# EAGLE library part TPA3116D2DAD (library TPA3116D2DAD)
￼TPA3116DAD by Daniel Nugent
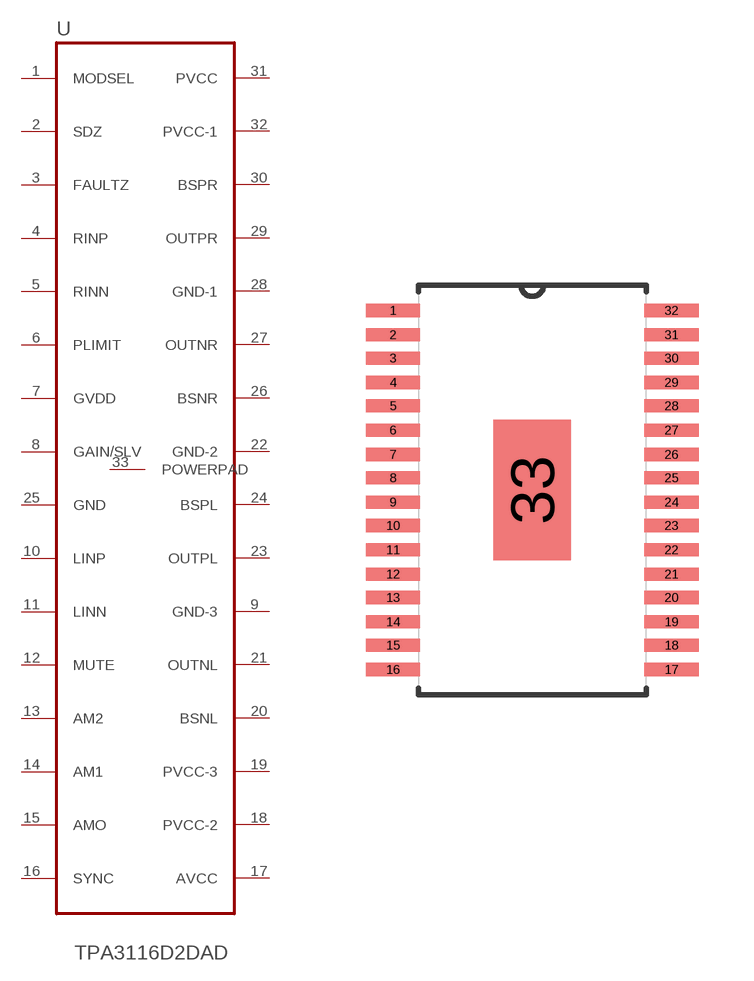
[diagram p0: symbol with the pads of SOP65P810X120-33N; footprint SOP65P810X120-33N]

Designator prefix U

## TPA3116D2DAD (Availability: Unavailable; Description: Amplifier IC 2-Channel _Stereo_ Class D 32-HTSSOP; MF: Texas Instruments; MP: TPA3116D2DAD; Package: HTSSOP-32 Texas Instruments; Price: None)  [SOP65P810X120-33N]
1  MODSEL
2  SDZ
3  FAULTZ
4  RINP  in
5  RINN  in
6  PLIMIT
7  GVDD  pwr
8  GAIN/SLV  in
9  GND-3  pwr
10  LINP  in
11  LINN  in
12  MUTE
13  AM2
14  AM1
15  AMO
16  SYNC
17  AVCC  pwr
18  PVCC-2  pwr
19  PVCC-3  pwr
20  BSNL
21  OUTNL  out
22  GND-2  pwr
23  OUTPL  out
24  BSPL
25  GND  pwr
26  BSNR
27  OUTNR  out
28  GND-1  pwr
29  OUTPR  out
30  BSPR
31  PVCC  pwr
32  PVCC-1  pwr
33  POWERPAD

## Footprint SOP65P810X120-33N (pad centres in mm)
smd 1.473 x 0.356: 1 -3.785,4.877; 2 -3.785,4.216; 3 -3.785,3.581; 4 -3.785,2.921; 5 -3.785,2.286; 6 -3.785,1.626; 7 -3.785,0.965; 8 -3.785,0.33; 9 -3.785,-0.33; 10 -3.785,-0.965; 11 -3.785,-1.626; 12 -3.785,-2.286; 13 -3.785,-2.921; 14 -3.785,-3.581; 15 -3.785,-4.216; 16 -3.785,-4.877; 17 3.785,-4.877; 18 3.785,-4.216; 19 3.785,-3.581; 20 3.785,-2.921; 21 3.785,-2.286; 22 3.785,-1.626; 23 3.785,-0.965; 24 3.785,-0.33; 25 3.785,0.33; 26 3.785,0.965; 27 3.785,1.626; 28 3.785,2.286; 29 3.785,2.921; 30 3.785,3.581; 31 3.785,4.216; 32 3.785,4.877
smd 2.108 x 3.81: 33 0,0